# Altium integrated library FPGA Memories.IntLib: 600 symbols (part 6 of 6)
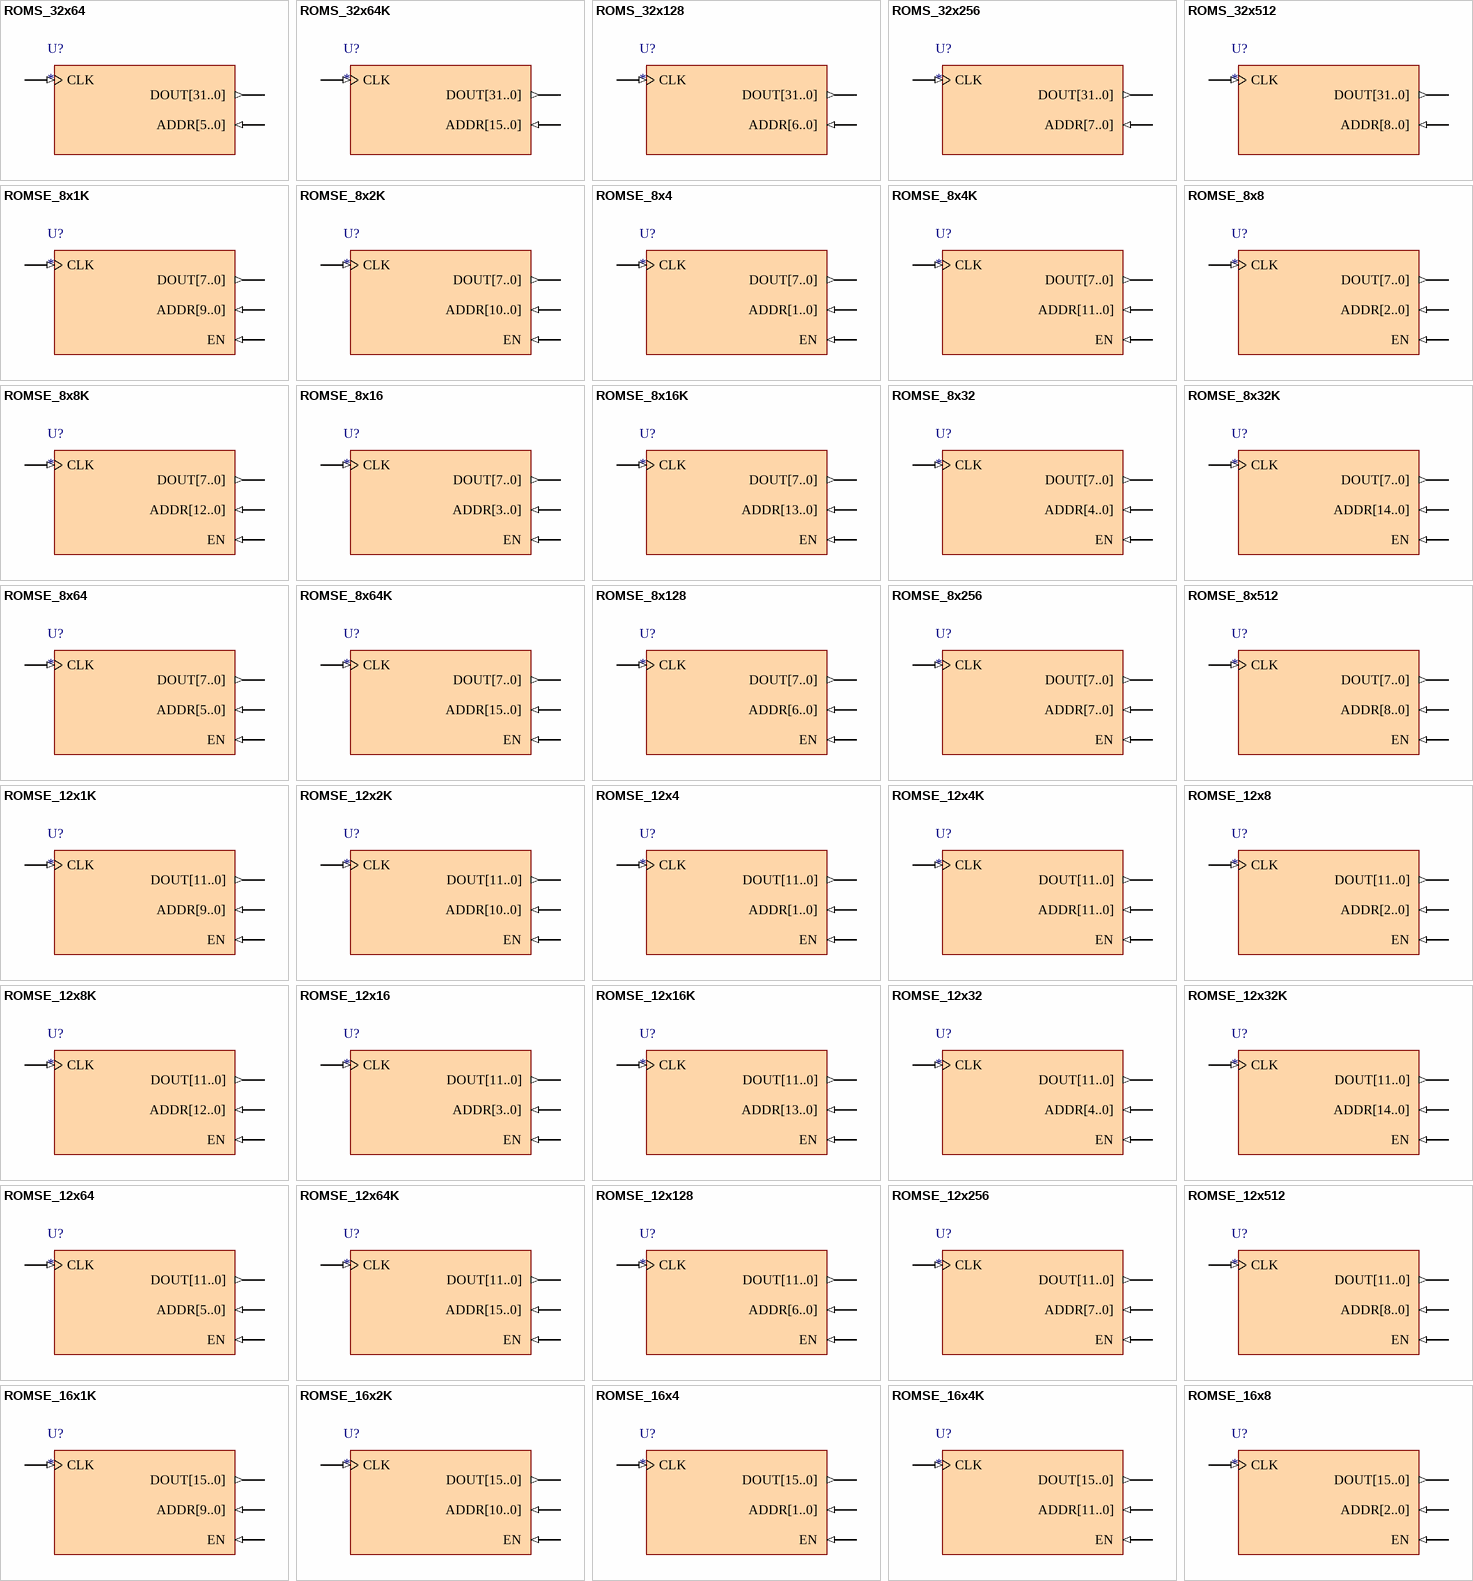
[diagram p25: symbols ROMS_32x64 to ROMSE_16x8]

## ROMSE_16x4
designator U?
Single Port ROM, Enable; Memory_Depth: 4; Memory_Type: ROM_SinglePortBlock; Memory_Width: 16; Memory_ClockEdge: Rising; Nexus_Core: Memory_Program; Memory_EnablePin: True; Memory_ByteWrites: False; Published: 11/10/2004; Publisher: Altium Hobart Technology Center
pins: ADDR[1..0] (in), CLK (in), DOUT[15..0] (out), EN (in)

## ROMSE_16x4K
designator U?
Single Port ROM, Enable; Memory_Depth: 4096; Memory_Type: ROM_SinglePortBlock; Memory_Width: 16; Memory_ClockEdge: Rising; Nexus_Core: Memory_Program; Memory_EnablePin: True; Memory_ByteWrites: False; Published: 11/10/2004; Publisher: Altium Hobart Technology Center
pins: ADDR[11..0] (in), CLK (in), DOUT[15..0] (out), EN (in)

## ROMSE_16x8
designator U?
Single Port ROM, Enable; Memory_Depth: 8; Memory_Type: ROM_SinglePortBlock; Memory_Width: 16; Memory_ClockEdge: Rising; Nexus_Core: Memory_Program; Memory_EnablePin: True; Memory_ByteWrites: False; Published: 11/10/2004; Publisher: Altium Hobart Technology Center
pins: ADDR[2..0] (in), CLK (in), DOUT[15..0] (out), EN (in)

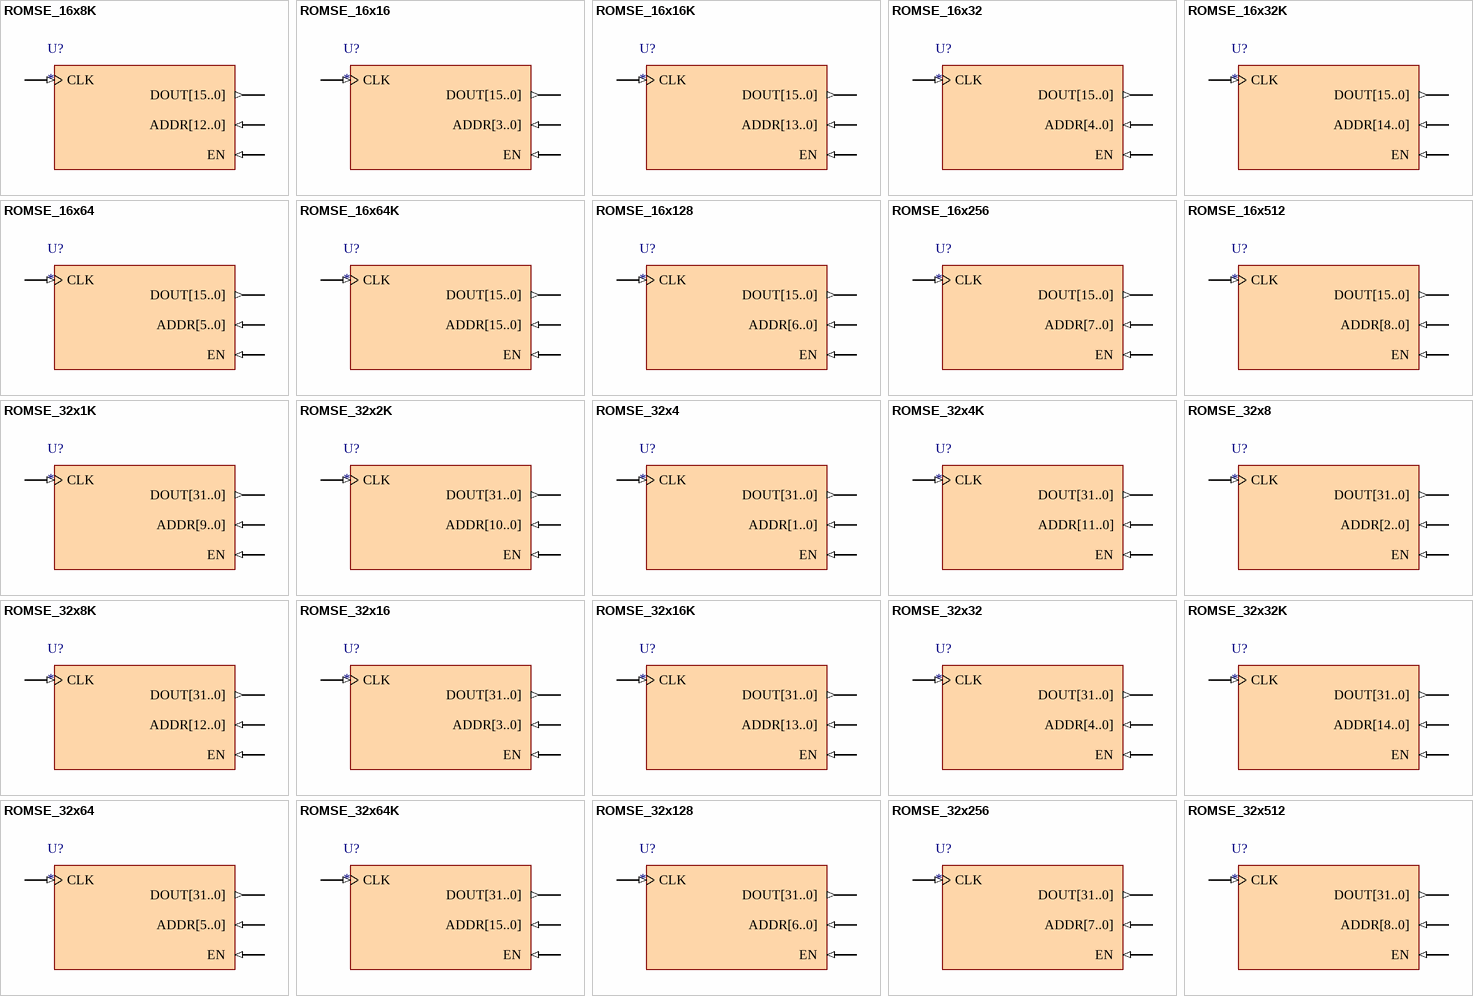
[diagram p20: symbols ROMSE_16x8K to ROMSE_32x512]

## ROMSE_16x8K
designator U?
Single Port ROM, Enable; Memory_Depth: 8192; Memory_Type: ROM_SinglePortBlock; Memory_Width: 16; Memory_ClockEdge: Rising; Nexus_Core: Memory_Program; Memory_EnablePin: True; Memory_ByteWrites: False; Published: 11/10/2004; Publisher: Altium Hobart Technology Center
pins: ADDR[12..0] (in), CLK (in), DOUT[15..0] (out), EN (in)

## ROMSE_16x16
designator U?
Single Port ROM, Enable; Memory_Depth: 16; Memory_Type: ROM_SinglePortBlock; Memory_ClockEdge: Rising; Nexus_Core: Memory_Program; Memory_EnablePin: True; Memory_ByteWrites: False; Published: 11/10/2004; Publisher: Altium Hobart Technology Center; Memory_Width: 16
pins: ADDR[3..0] (in), CLK (in), DOUT[15..0] (out), EN (in)

## ROMSE_16x16K
designator U?
Single Port ROM, Enable; Memory_Depth: 16384; Memory_Type: ROM_SinglePortBlock; Memory_Width: 16; Memory_ClockEdge: Rising; Nexus_Core: Memory_Program; Memory_EnablePin: True; Memory_ByteWrites: False; Published: 11/10/2004; Publisher: Altium Hobart Technology Center
pins: ADDR[13..0] (in), CLK (in), DOUT[15..0] (out), EN (in)

## ROMSE_16x32
designator U?
Single Port ROM, Enable; Memory_Depth: 32; Memory_Type: ROM_SinglePortBlock; Memory_Width: 16; Memory_ClockEdge: Rising; Nexus_Core: Memory_Program; Memory_EnablePin: True; Memory_ByteWrites: False; Published: 11/10/2004; Publisher: Altium Hobart Technology Center
pins: ADDR[4..0] (in), CLK (in), DOUT[15..0] (out), EN (in)

## ROMSE_16x32K
designator U?
Single Port ROM, Enable; Memory_Depth: 32768; Memory_Type: ROM_SinglePortBlock; Memory_Width: 16; Memory_ClockEdge: Rising; Nexus_Core: Memory_Program; Memory_EnablePin: True; Memory_ByteWrites: False; Published: 11/10/2004; Publisher: Altium Hobart Technology Center
pins: ADDR[14..0] (in), CLK (in), DOUT[15..0] (out), EN (in)

## ROMSE_16x64
designator U?
Single Port ROM, Enable; Memory_Depth: 64; Memory_Type: ROM_SinglePortBlock; Memory_Width: 16; Memory_ClockEdge: Rising; Nexus_Core: Memory_Program; Memory_EnablePin: True; Memory_ByteWrites: False; Published: 11/10/2004; Publisher: Altium Hobart Technology Center
pins: ADDR[5..0] (in), CLK (in), DOUT[15..0] (out), EN (in)

## ROMSE_16x64K
designator U?
Single Port ROM, Enable; Memory_Depth: 65536; Memory_Type: ROM_SinglePortBlock; Memory_Width: 16; Memory_ClockEdge: Rising; Nexus_Core: Memory_Program; Memory_EnablePin: True; Memory_ByteWrites: False; Published: 11/10/2004; Publisher: Altium Hobart Technology Center
pins: ADDR[15..0] (in), CLK (in), DOUT[15..0] (out), EN (in)

## ROMSE_16x128
designator U?
Single Port ROM, Enable; Memory_Depth: 128; Memory_Type: ROM_SinglePortBlock; Memory_Width: 16; Memory_ClockEdge: Rising; Nexus_Core: Memory_Program; Memory_EnablePin: True; Memory_ByteWrites: False; Published: 11/10/2004; Publisher: Altium Hobart Technology Center
pins: ADDR[6..0] (in), CLK (in), DOUT[15..0] (out), EN (in)

## ROMSE_16x256
designator U?
Single Port ROM, Enable; Memory_Depth: 256; Memory_Type: ROM_SinglePortBlock; Memory_Width: 16; Memory_ClockEdge: Rising; Nexus_Core: Memory_Program; Memory_EnablePin: True; Memory_ByteWrites: False; Published: 11/10/2004; Publisher: Altium Hobart Technology Center
pins: ADDR[7..0] (in), CLK (in), DOUT[15..0] (out), EN (in)

## ROMSE_16x512
designator U?
Single Port ROM, Enable; Memory_Depth: 512; Memory_Type: ROM_SinglePortBlock; Memory_Width: 16; Memory_ClockEdge: Rising; Nexus_Core: Memory_Program; Memory_EnablePin: True; Memory_ByteWrites: False; Published: 11/10/2004; Publisher: Altium Hobart Technology Center
pins: ADDR[8..0] (in), CLK (in), DOUT[15..0] (out), EN (in)

## ROMSE_32x1K
designator U?
Single Port ROM, Enable; Memory_Depth: 1024; Memory_Type: ROM_SinglePortBlock; Memory_Width: 32; Memory_ClockEdge: Rising; Nexus_Core: Memory_Program; Memory_EnablePin: True; Memory_ByteWrites: False; Published: 11/10/2004; Publisher: Altium Hobart Technology Center
pins: ADDR[9..0] (in), CLK (in), DOUT[31..0] (out), EN (in)

## ROMSE_32x2K
designator U?
Single Port ROM, Enable; Memory_Depth: 2048; Memory_Type: ROM_SinglePortBlock; Memory_Width: 32; Memory_ClockEdge: Rising; Nexus_Core: Memory_Program; Memory_EnablePin: True; Memory_ByteWrites: False; Published: 11/10/2004; Publisher: Altium Hobart Technology Center
pins: ADDR[10..0] (in), CLK (in), DOUT[31..0] (out), EN (in)

## ROMSE_32x4
designator U?
Single Port ROM, Enable; Memory_Depth: 4; Memory_Type: ROM_SinglePortBlock; Memory_Width: 32; Memory_ClockEdge: Rising; Nexus_Core: Memory_Program; Memory_EnablePin: True; Memory_ByteWrites: False; Published: 11/10/2004; Publisher: Altium Hobart Technology Center
pins: ADDR[1..0] (in), CLK (in), DOUT[31..0] (out), EN (in)

## ROMSE_32x4K
designator U?
Single Port ROM, Enable; Memory_Depth: 4096; Memory_Type: ROM_SinglePortBlock; Memory_Width: 32; Memory_ClockEdge: Rising; Nexus_Core: Memory_Program; Memory_EnablePin: True; Memory_ByteWrites: False; Published: 11/10/2004; Publisher: Altium Hobart Technology Center
pins: ADDR[11..0] (in), CLK (in), DOUT[31..0] (out), EN (in)

## ROMSE_32x8
designator U?
Single Port ROM, Enable; Memory_Depth: 8; Memory_Type: ROM_SinglePortBlock; Memory_Width: 32; Memory_ClockEdge: Rising; Nexus_Core: Memory_Program; Memory_EnablePin: True; Memory_ByteWrites: False; Published: 11/10/2004; Publisher: Altium Hobart Technology Center
pins: ADDR[2..0] (in), CLK (in), DOUT[31..0] (out), EN (in)

## ROMSE_32x8K
designator U?
Single Port ROM, Enable; Memory_Depth: 8192; Memory_Type: ROM_SinglePortBlock; Memory_Width: 32; Memory_ClockEdge: Rising; Nexus_Core: Memory_Program; Memory_EnablePin: True; Memory_ByteWrites: False; Published: 11/10/2004; Publisher: Altium Hobart Technology Center
pins: ADDR[12..0] (in), CLK (in), DOUT[31..0] (out), EN (in)

## ROMSE_32x16
designator U?
Single Port ROM, Enable; Memory_Depth: 16; Memory_Type: ROM_SinglePortBlock; Memory_Width: 32; Memory_ClockEdge: Rising; Nexus_Core: Memory_Program; Memory_EnablePin: True; Memory_ByteWrites: False; Published: 11/10/2004; Publisher: Altium Hobart Technology Center
pins: ADDR[3..0] (in), CLK (in), DOUT[31..0] (out), EN (in)

## ROMSE_32x16K
designator U?
Single Port ROM, Enable; Memory_Depth: 16384; Memory_Type: ROM_SinglePortBlock; Memory_Width: 32; Memory_ClockEdge: Rising; Nexus_Core: Memory_Program; Memory_EnablePin: True; Memory_ByteWrites: False; Published: 11/10/2004; Publisher: Altium Hobart Technology Center
pins: ADDR[13..0] (in), CLK (in), DOUT[31..0] (out), EN (in)

## ROMSE_32x32
designator U?
Single Port ROM, Enable; Memory_Depth: 32; Memory_Type: ROM_SinglePortBlock; Memory_ClockEdge: Rising; Nexus_Core: Memory_Program; Memory_EnablePin: True; Memory_ByteWrites: False; Published: 11/10/2004; Publisher: Altium Hobart Technology Center; Memory_Width: 32
pins: ADDR[4..0] (in), CLK (in), DOUT[31..0] (out), EN (in)

## ROMSE_32x32K
designator U?
Single Port ROM, Enable; Memory_Depth: 32768; Memory_Type: ROM_SinglePortBlock; Memory_Width: 32; Memory_ClockEdge: Rising; Nexus_Core: Memory_Program; Memory_EnablePin: True; Memory_ByteWrites: False; Published: 11/10/2004; Publisher: Altium Hobart Technology Center
pins: ADDR[14..0] (in), CLK (in), DOUT[31..0] (out), EN (in)

## ROMSE_32x64
designator U?
Single Port ROM, Enable; Memory_Depth: 64; Memory_Type: ROM_SinglePortBlock; Memory_Width: 32; Memory_ClockEdge: Rising; Nexus_Core: Memory_Program; Memory_EnablePin: True; Memory_ByteWrites: False; Published: 11/10/2004; Publisher: Altium Hobart Technology Center
pins: ADDR[5..0] (in), CLK (in), DOUT[31..0] (out), EN (in)

## ROMSE_32x64K
designator U?
Single Port ROM, Enable; Memory_Depth: 65536; Memory_Type: ROM_SinglePortBlock; Memory_Width: 32; Memory_ClockEdge: Rising; Nexus_Core: Memory_Program; Memory_EnablePin: True; Memory_ByteWrites: False; Published: 11/10/2004; Publisher: Altium Hobart Technology Center
pins: ADDR[15..0] (in), CLK (in), DOUT[31..0] (out), EN (in)

## ROMSE_32x128
designator U?
Single Port ROM, Enable; Memory_Depth: 128; Memory_Type: ROM_SinglePortBlock; Memory_Width: 32; Memory_ClockEdge: Rising; Nexus_Core: Memory_Program; Memory_EnablePin: True; Memory_ByteWrites: False; Published: 11/10/2004; Publisher: Altium Hobart Technology Center
pins: ADDR[6..0] (in), CLK (in), DOUT[31..0] (out), EN (in)

## ROMSE_32x256
designator U?
Single Port ROM, Enable; Memory_Depth: 256; Memory_Type: ROM_SinglePortBlock; Memory_Width: 32; Memory_ClockEdge: Rising; Nexus_Core: Memory_Program; Memory_EnablePin: True; Memory_ByteWrites: False; Published: 11/10/2004; Publisher: Altium Hobart Technology Center
pins: ADDR[7..0] (in), CLK (in), DOUT[31..0] (out), EN (in)

## ROMSE_32x512
designator U?
Single Port ROM, Enable; Memory_Depth: 512; Memory_Type: ROM_SinglePortBlock; Memory_Width: 32; Memory_ClockEdge: Rising; Nexus_Core: Memory_Program; Memory_EnablePin: True; Memory_ByteWrites: False; Published: 11/10/2004; Publisher: Altium Hobart Technology Center
pins: ADDR[8..0] (in), CLK (in), DOUT[31..0] (out), EN (in)